# EAGLE library part TD1484A (library microcodes)
4.75-20V step-down synch converter
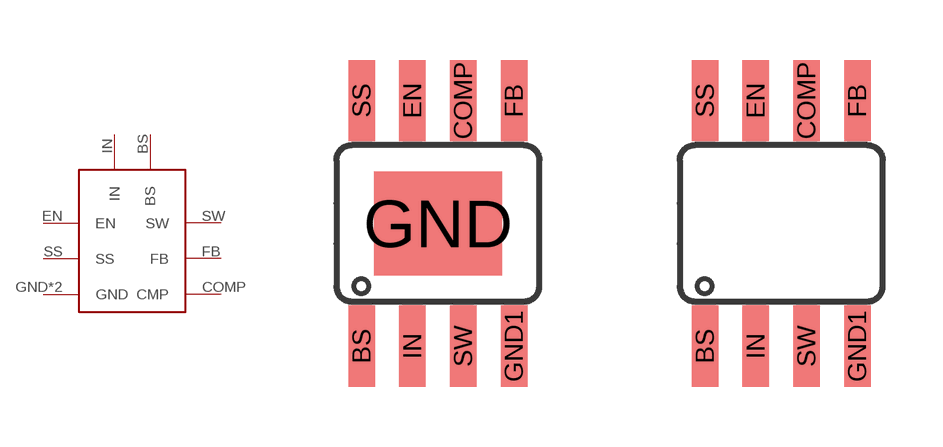
[diagram p2: symbol with the pads of SOP8_EP; footprints SOP8_EP, SOP8_AP]

Designator prefix -

## TD1484A  [SOP8_EP]
BS  BS  pwr
COMP  CMP
EN  EN  in
FB  FB
GND  GND  out
GND1  GND  out
IN  IN  in
SS  SS
SW  SW  pwr

## TD1484ANP  [SOP8_AP]
BS  BS  pwr
COMP  CMP
EN  EN  in
FB  FB
GND1  GND  out
IN  IN  in
SS  SS
SW  SW  pwr

## Footprint SOP8_EP (pad centres in mm)
SOIC 150 mil. based on soic8 footprint from the maxim library. I've added the dissipation pad as per datasheet, changed tPlace elements, named the pins and fixed a weird misalignment on the third pin of the bottom row which I suppose it was the designer's signature.
smd 0.66 x 2.032: BS -1.905,-3.073; COMP 0.635,3.073; EN -0.635,3.073; FB 1.905,3.073; GND1 1.905,-3.073; IN -0.635,-3.073; SS -1.905,3.073; SW 0.635,-3.073
smd 3.2 x 2.6: GND 0,0

## Footprint SOP8_AP (pad centres in mm)
SOIC 150 mil without dissipation pad. based on soic8 footprint from the maxim library. I've changed tPlace elements, named the pins and fixed a weird misalignment on the third pin of the bottom row which I suppose it was the designer's signature.
smd 0.66 x 2.032: BS -1.905,-3.073; COMP 0.635,3.073; EN -0.635,3.073; FB 1.905,3.073; GND1 1.905,-3.073; IN -0.635,-3.073; SS -1.905,3.073; SW 0.635,-3.073